# Altium integrated library POWER IC.IntLib: 4 symbols
Pins are listed as number, name and electrical type; pins without a type are passive.

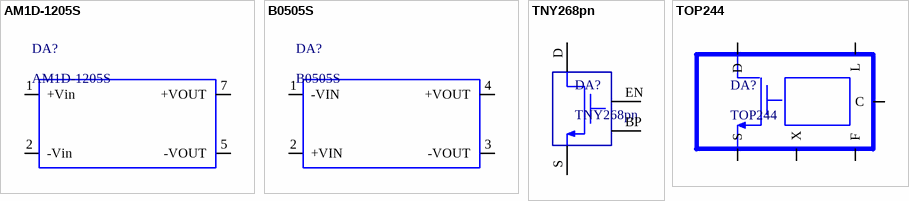
[diagram p0: symbols AM1D-1205S to TOP244]

## AM1D-1205S
designator DA?
ComponentDescription: AM1D-1205S
footprint AM1D-XXXX
pins: 1 +Vin, 2 -Vin, 5 -VOUT, 7 +VOUT

## B0505S
designator DA?
ComponentDescription: B0505S
footprint B0505S
pins: 1 -VIN, 2 +VIN, 3 -VOUT, 4 +VOUT

## TNY268pn
designator DA?
ComponentDescription: TNY268pn
footprint TNY268pn
pins: BP, D, EN, S

## TOP244
designator DA?
Value: TOP244; ComponentDescription: TOP244
footprint TO220-7C
pins: 1 C (in), 2 L, 3 X, 4 S, 5 F, 7 D